# Altium schematic symbol library board_component.SchLib: 5 symbols
Pins are listed as number, name and electrical type; pins without a type are passive.

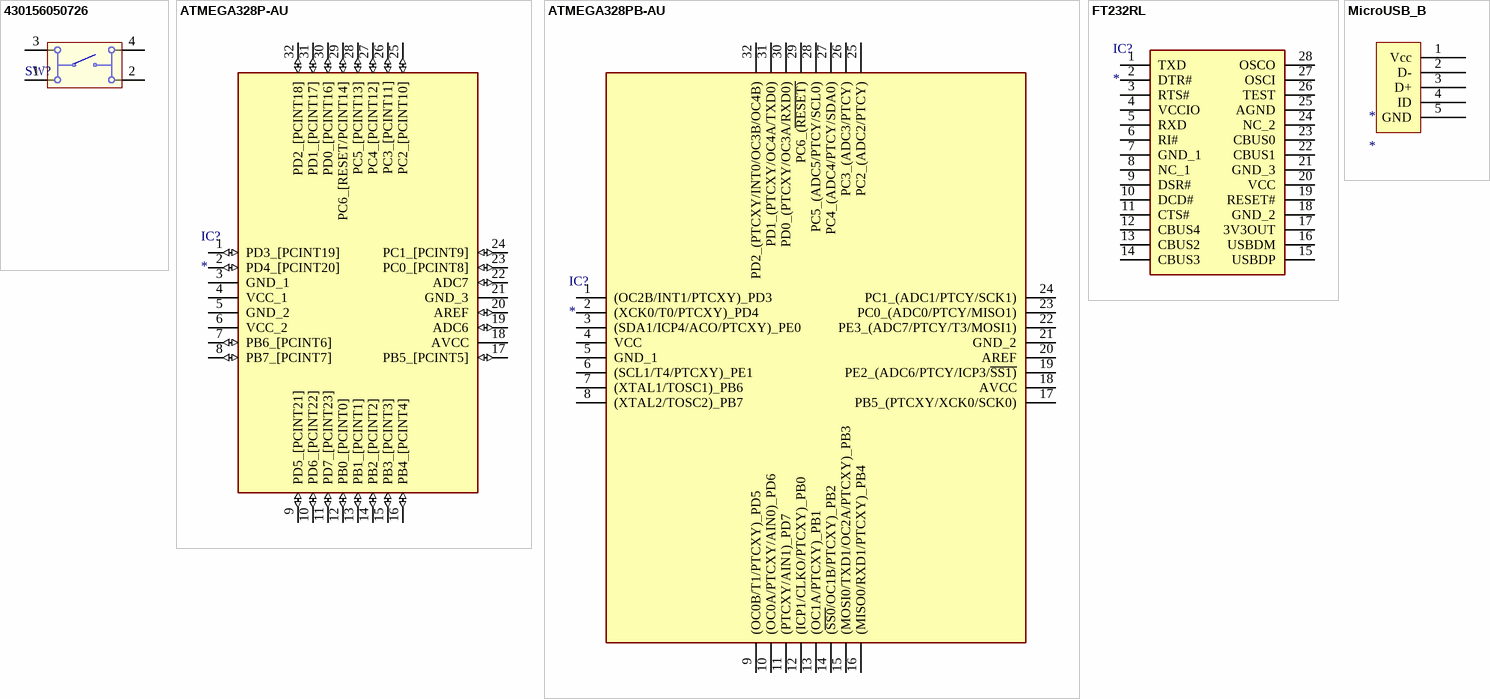
[diagram p0: symbols 430156050726 to MicroUSB_B]

## 430156050726
designator SW?
WS-TATV THT Tact Switch 6X6 mm; PartNumber: 430156050726; NoPins: 04; PackageReference: 430156050726; ComponentLink1Description: Manufacturer URL; ComponentLink1URL: http://www.we-online.com; ComponentLink2Description: Datasheet; ComponentLink2URL: http://katalog.we-online.de/em/datasheet/4301x6.pdf
footprint 430156050726 (6*6mm vertical type, THT, height 5.0mm, white actuator, 260gf, Bulk)
footprint 430156050726 (6*6mm vertical type, THT, height 5.0mm, white actuator, 260gf, Bulk)
pins: 1, 2, 3, 4

## ATMEGA328P-AU
designator IC?
Integrated Circuit; Manufacturer_Name: Microchip; Manufacturer_Part_Number: ATMEGA328P-AU; Datasheet Link: https://componentsearchengine.com/Datasheets/2/ATMEGA328P-AU.pdf; Height: 1.2mm
footprint QFP80P900X900X120-32N
pins: 1 PD3_[PCINT19] (io), 2 PD4_[PCINT20] (io), 3 GND_1 (power), 4 VCC_1 (power), 5 GND_2 (power), 6 VCC_2 (power), 7 PB6_[PCINT6] (io), 8 PB7_[PCINT7] (io), 9 PD5_[PCINT21] (io), 10 PD6_[PCINT22] (io), 11 PD7_[PCINT23] (io), 12 PB0_[PCINT0] (io), 13 PB1_[PCINT1] (io), 14 PB2_[PCINT2] (io), 15 PB3_[PCINT3] (io), 16 PB4_[PCINT4] (io), 17 PB5_[PCINT5] (io), 18 AVCC (power), 19 ADC6 (io), 20 AREF (io), 21 GND_3 (power), 22 ADC7 (io), 23 PC0_[PCINT8] (io), 24 PC1_[PCINT9] (io), 25 PC2_[PCINT10] (io), 26 PC3_[PCINT11] (io), 27 PC4_[PCINT12] (io), 28 PC5_[PCINT13] (io), 29 PC6_[RESET/PCINT14] (io), 30 PD0_[PCINT16] (io), 31 PD1_[PCINT17] (io), 32 PD2_[PCINT18] (io)

## ATMEGA328PB-AU
designator IC?
Integrated Circuit; Manufacturer_Name: Microchip; Manufacturer_Part_Number: ATMEGA328PB-AU; Datasheet Link: http://www.farnell.com/datasheets/2014286.pdf; Height: 1.2mm; Mouser Part Number: 556-ATMEGA328PB-AU; Mouser Price/Stock: https://www.mouser.co.uk/ProductDetail/Microchip-Technology-Atmel/ATMEGA328PB-AU/?qs=jy4bLUHv09hbFONgGrqPbw%3D%3D; Arrow Part Number: ATMEGA328PB-AU; Arrow Price/Stock: https://www.arrow.com/en/products/atmega328pb-au/microchip-technology
footprint QFP80P900X900X120-32N
pins: 1 (OC2B/INT1/PTCXY)_PD3, 2 (XCK0/T0/PTCXY)_PD4, 3 (SDA1/ICP4/ACO/PTCXY)_PE0, 4 VCC, 5 GND_1, 6 (SCL1/T4/PTCXY)_PE1, 7 (XTAL1/TOSC1)_PB6, 8 (XTAL2/TOSC2)_PB7, 9 (OC0B/T1/PTCXY)_PD5, 10 (OC0A/PTCXY/AIN0)_PD6, 11 (PTCXY/AIN1)_PD7, 12 (ICP1/CLKO/PTCXY)_PB0, 13 (OC1A/PTCXY)_PB1, 14 (~{SS0}/OC1B/PTCXY)_PB2, 15 (MOSI0/TXD1/OC2A/PTCXY)_PB3, 16 (MISO0/RXD1/PTCXY)_PB4, 17 PB5_(PTCXY/XCK0/SCK0), 18 AVCC, 19 PE2_(ADC6/PTCY/ICP3/~{SS1)}, 20 AREF, 21 GND_2, 22 PE3_(ADC7/PTCY/T3/MOSI1), 23 PC0_(ADC0/PTCY/MISO1), 24 PC1_(ADC1/PTCY/SCK1), 25 PC2_(ADC2/PTCY), 26 PC3_(ADC3/PTCY), 27 PC4_(ADC4/PTCY/SDA0), 28 PC5_(ADC5/PTCY/SCL0), 29 PC6_(~{RESET)}, 30 PD0_(PTCXY/OC3A/RXD0), 31 PD1_(PTCXY/OC4A/TXD0), 32 PD2_(PTCXY/INT0/OC3B/OC4B)

## FT232RL
designator IC?
Integrated Circuit; Manufacturer_Name: FTDI Chip; Manufacturer_Part_Number: FT232RL-REEL; Datasheet Link: http://www.ftdichip.com/Support/Documents/DataSheets/ICs/DS_FT232R.pdf; Height: 2mm
footprint SOP65P778X200-28N
pins: 1 TXD, 2 DTR#, 3 RTS#, 4 VCCIO, 5 RXD, 6 RI#, 7 GND_1, 8 NC_1, 9 DSR#, 10 DCD#, 11 CTS#, 12 CBUS4, 13 CBUS2, 14 CBUS3, 15 USBDP, 16 USBDM, 17 3V3OUT, 18 GND_2, 19 RESET#, 20 VCC, 21 GND_3, 22 CBUS1, 23 CBUS0, 24 NC_2, 25 AGND, 26 TEST, 27 OSCI, 28 OSCO

## MicroUSB_B
designator *
footprint micro_usb_molex_105017-0001
pins: 1 Vcc, 2 D-, 3 D+, 4 ID, 5 GND